# Altium footprint library Adafruit_LED.PcbLib: 1 footprints
Each footprint in its own frame and in the unit in brackets; x right, y up, seen from the top. Pads: shape width x height; smd on the part's side, far side on the other; paste and mask are expansions set on the pad; w line width, h text height; cw(c..) or ccw(c..) is an arc to the next point about the centre after c.
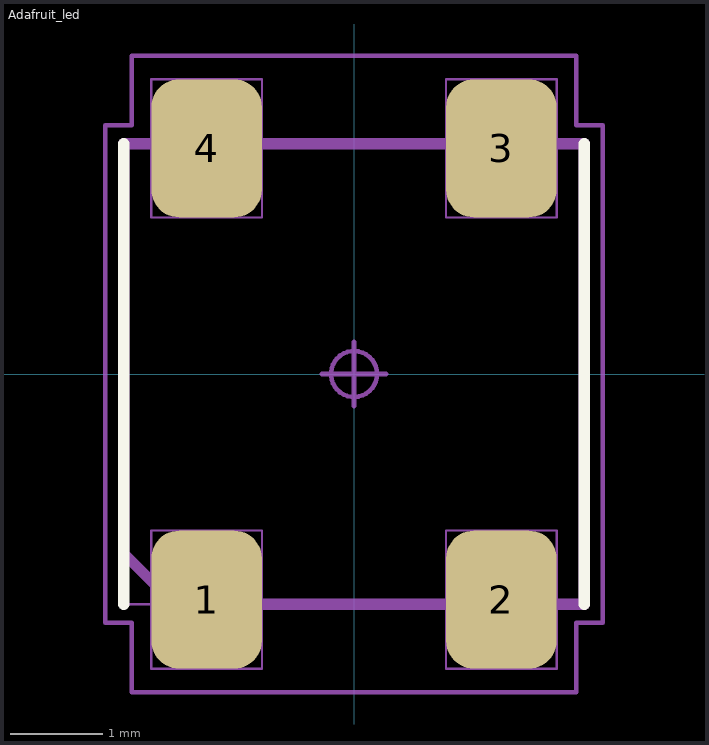
[diagram p0: the footprint, top view; thin cyan lines are the x and y axes]

## Adafruit_led [mm] "Oscillator, L-Bend, 3.20 mm pitch; 4 pin, 5.00 mm L X 5.00 mm W X 1.60 mm H body"
height 1.6
pads (4):
  rrect50% 1.2x1.5 smd: 1(-1.6,-2.45) 2(1.6,-2.45) 3(1.6,2.45) 4(-1.6,2.45)
Top Overlay:
  lines w0.12: -2.5,-2.5 -2.5,2.5 ; 2.5,-2.5 2.5,2.5
Mechanical 3:
  lines w0.12: -2.5,-1.95 -1.95,-2.5 2.5,-2.5 2.5,2.5 -2.5,2.5 -2.5,-1.95
Mechanical 5:
  lines w0.025: -2.5,-2.5 -2.5,2.5 2.5,2.5 2.5,-2.5 -2.5,-2.5 ; -2.2,-3.2 -2.2,-1.7 -1,-1.7 -1,-3.2 -2.2,-3.2 ; -2.2,1.7 -2.2,3.2 -1,3.2 -1,1.7 -2.2,1.7 ; 1,-3.2 1,-1.7 2.2,-1.7 2.2,-3.2 1,-3.2 ; 1,1.7 1,3.2 2.2,3.2 2.2,1.7 1,1.7
Mechanical 7:
  circle w0.05: c0,0 r0.25
  lines w0.05: -0.35,0 0.35,0 ; 0,-0.35 0,0.35 ; -2.7,-2.7 -2.7,2.7 -2.415,2.7 -2.415,3.455 2.415,3.455 2.415,2.7 2.7,2.7 2.7,-2.7 2.415,-2.7 2.415,-3.455 -2.415,-3.455 -2.415,-2.7 -2.7,-2.7
Mechanical 9:
  text "'.Designator'" at -5.6,-0.3 h1
3D body "Adafruit_led.STEP": height 1.6, standoff 0, extent -2.5,-2.7 2.5,2.7
3D body: height 0.1, standoff 0, extent -2.7,-3.455 2.7,3.455